# Altium footprint library C DIP.PcbLib: 40 footprints (part 1 of 3)
Each footprint in its own frame and in the unit in brackets; x right, y up, seen from the top. Pads: shape width x height; smd on the part's side, far side on the other; paste and mask are expansions set on the pad; w line width, h text height; cw(c..) or ccw(c..) is an arc to the next point about the centre after c.
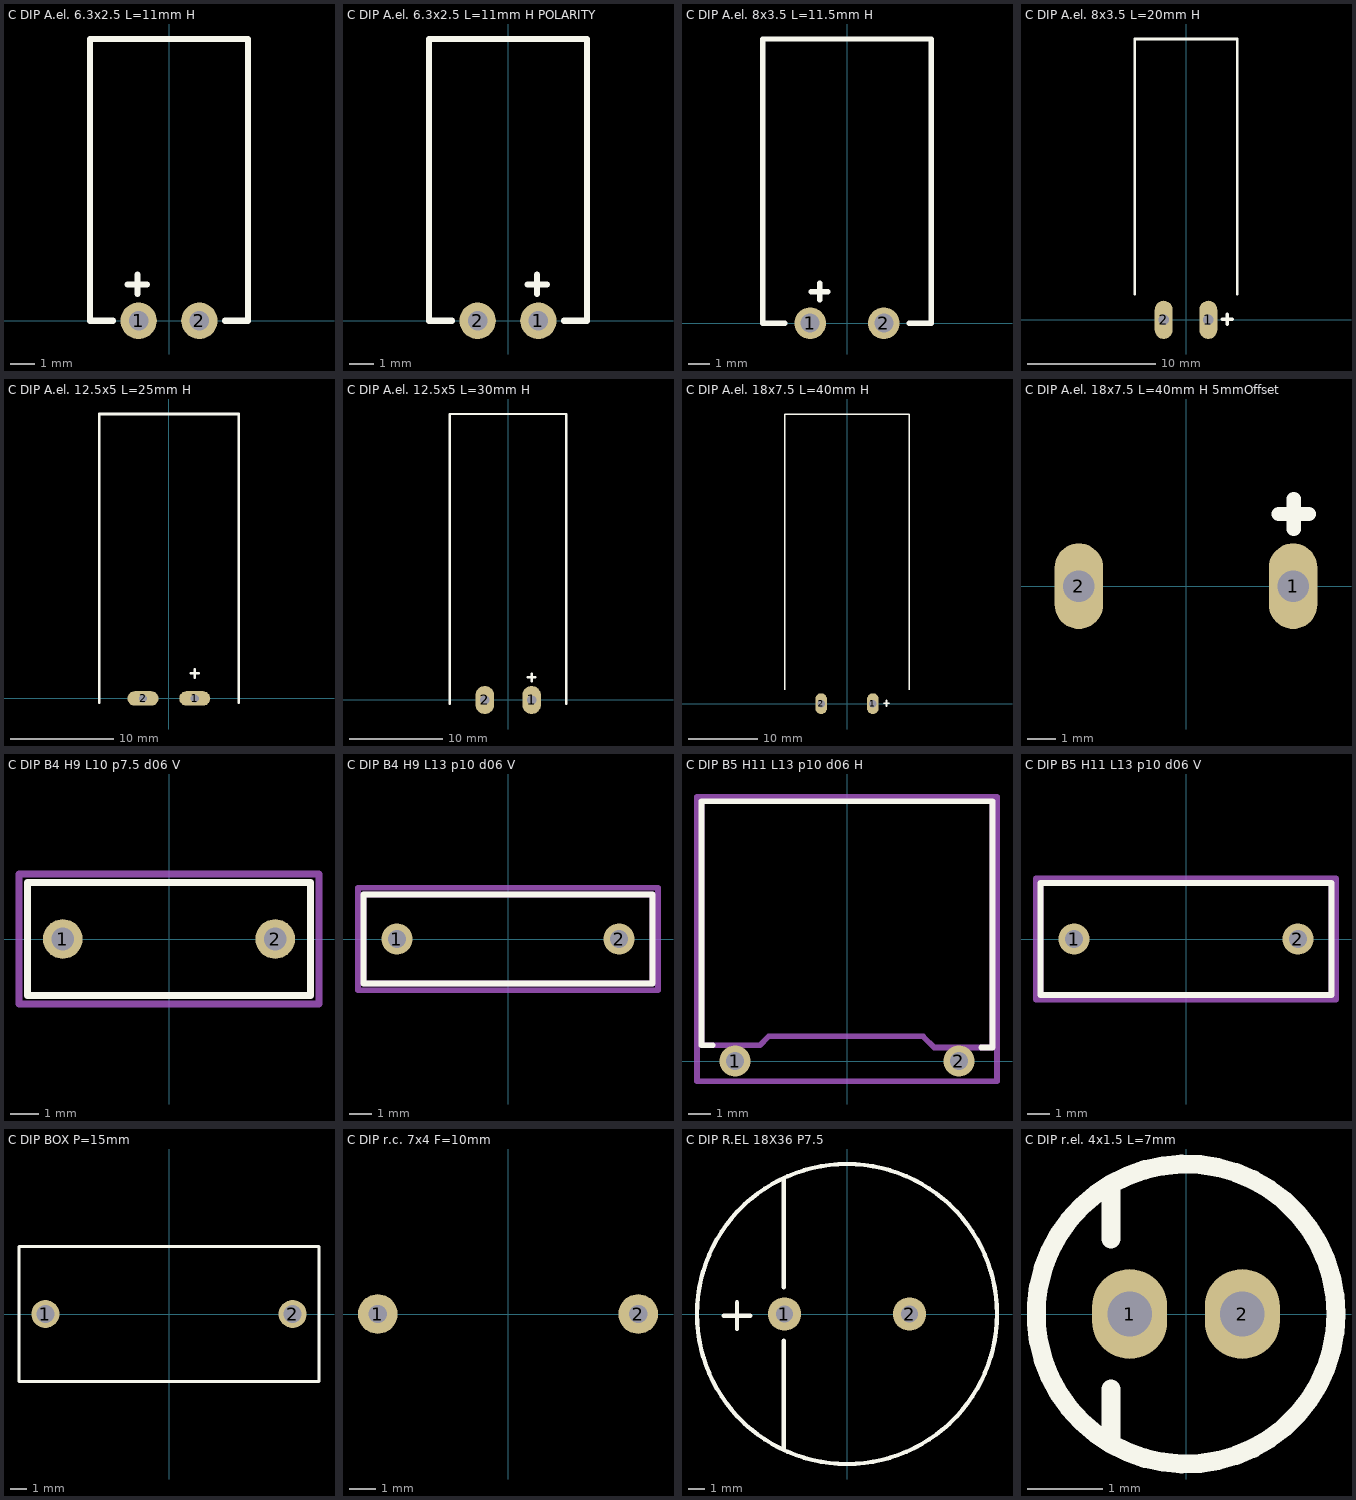
[diagram p0: the footprints below, top view; thin cyan lines are the x and y axes]

## C DIP A.el. 6.3x2.5 L=11mm H [mm] "C DIP A.el. 6.3x2.5 L=11mm Horisomtal"
height 11
pads (2):
  round 1.5 hole 0.8: 1(-1.25,0) 2(1.25,0)
Top Overlay:
  lines w0.25: -3.25,0 -3.25,11.6 ; 3.25,0 3.25,11.6
  lines w0.254: -3.25,0 -2.3,0 ; -3.25,11.6 3.25,11.6 ; -1.7,1.5 -0.9,1.5 ; -1.3,1.1 -1.3,1.9 ; 2.3,0 3.25,0
3D body: height 6.3, standoff -1, extent -3.147,-0.3 3.15,11.6

## C DIP A.el. 6.3x2.5 L=11mm H POLARITY [mm] "C DIP A.el. 6.3x2.5 L=11mm H POLARITY"
height 11
pads (2):
  round 1.5 hole 0.8: 1(1.25,0) 2(-1.25,0)
Top Overlay:
  lines w0.25: -3.25,0 -3.25,11.6 ; 3.25,0 3.25,11.6
  lines w0.254: -3.25,0 -2.3,0 ; -3.25,11.6 3.25,11.6 ; 0.8,1.5 1.6,1.5 ; 1.2,1.1 1.2,1.9 ; 2.3,0 3.25,0
3D body: height 6.3, standoff -1, extent -3.151,-0.3 3.146,11.6

## C DIP A.el. 8x3.5 L=11.5mm H [mm] "C DIP A.el. 8x3.5 L=11.5mm Horisontal"
height 8
pads (2):
  round 1.5 hole 0.9: 1(-1.75,0) 2(1.75,0)
Top Overlay:
  lines w0.25: -4,0 -4,13.5 ; 4,0 4,13.5
  lines w0.254: -4,0 -2.95,0 ; -4,13.5 4,13.5 ; -1.7,1.5 -0.9,1.5 ; -1.3,1.1 -1.3,1.9 ; 2.95,0 4,0
3D body: height 8.03, standoff -2, extent -4.025,-0.345 4.026,13.476

## C DIP A.el. 8x3.5 L=20mm H [mm] "C DIP A.el. 8x3.5 L=20mm Horisontal"
height 8
pads (2):
  oval 1.4x3 hole 0.8: 1(1.75,0) 2(-1.75,0)
Top Overlay:
  lines w0.2: -4,2 -4,22 4,22 4,2
  lines w0.254: 2.825,0.05 3.625,0.05 ; 3.225,-0.35 3.225,0.45
3D body: height 8, standoff 0, extent -4,2 4,22
3D body: height 4, standoff -3, extent -2.048,-0.299 -1.45,0.299
3D body: height 4, standoff -3, extent 1.452,-0.299 2.05,0.299
3D body: height 4.3, standoff 3.7, extent -2.049,0 -1.451,2
3D body: height 4.3, standoff 3.7, extent 1.45,0 2.048,2
3D body: height 4.3, standoff 3.7, extent -2.049,-0.298 -1.449,0.298
3D body: height 4.3, standoff 3.7, extent 1.45,-0.298 2.05,0.298

## C DIP A.el. 12.5x5 L=25mm H [mm] "C DIP A.el. 12.5x5 L=25mm Horisomtal"
height 13
pads (2):
  oval 3x1.4 hole 0.8: 1(2.5,0) 2(-2.5,0)
Top Overlay:
  lines w0.254: -6.725,-0.4 -6.725,27.5 6.75,27.5 6.75,-0.4 ; 2.1,2.45 2.9,2.45 ; 2.5,2 2.5,2.8
3D body: height 13.5, standoff 0, extent -6.75,1 6.75,27.5

## C DIP A.el. 12.5x5 L=30mm H [mm] "C DIP A.el. 12.5x5 L=30mm Horisomtal"
height 30
pads (2):
  oval 2x3 hole 1: 1(2.5,0) 2(-2.5,0)
Top Overlay:
  lines w0.254: -6.25,-0.4 -6.25,30.6 6.2,30.6 6.2,-0.4 ; 2.1,2.45 2.9,2.45 ; 2.5,2 2.5,2.8
3D body: height 12.5, standoff -1, extent -6.25,-0.4 6.213,30.6

## C DIP A.el. 18x7.5 L=40mm H [mm] "C DIP A.el. 18x7.5 L=40mm Horisontal"
height 18
pads (2):
  oval 1.7x3 hole 1.1: 1(3.75,0) 2(-3.751,0)
Top Overlay:
  lines w0.2: -9,2 -9,42 9,42 9,2
  lines w0.254: 5.325,0.05 6.125,0.05 ; 5.725,-0.35 5.725,0.45
3D body: height 4, standoff -3, extent -4.049,-0.299 -3.451,0.3
3D body: height 4.3, standoff 3.7, extent -4.05,0 -3.452,2
3D body: height 4.3, standoff 3.7, extent -4.05,-0.298 -3.45,0.298
3D body: height 4, standoff -3, extent 3.452,-0.299 4.05,0.299
3D body: height 4.3, standoff 3.7, extent 3.45,0 4.048,2
3D body: height 4.3, standoff 3.7, extent 3.45,-0.298 4.05,0.298
3D body: height 17.99, standoff 0.01, extent -9,2 9,42

## C DIP A.el. 18x7.5 L=40mm H 5mmOffset [mm] "C DIP A.el. 18x7.5 L=40mm Horizontal, 5mm lifted from PCB"
height 23
pads (2):
  oval 1.7x3 hole 1.1: 1(3.75,0) 2(-3.751,0)
Top Overlay:
  lines w0.5: 3.25,2.525 4.3,2.525 ; 3.775,2 3.775,3.05
3D body: height 22.99, standoff 5.01, extent -9,2 9,42
3D body: height 14.4, standoff 13.6, extent 3.351,-0.397 4.15,0.397
3D body: height 14.4, standoff 13.6, extent 3.35,0 4.147,2
3D body: height 4, standoff -3, extent 3.353,-0.399 4.15,0.399
3D body: height 14.4, standoff 13.6, extent -4.149,-0.397 -3.35,0.397
3D body: height 14.4, standoff 13.6, extent -4.15,0 -3.353,2
3D body: height 14, standoff -3, extent -4.148,-0.399 -3.351,0.399

## C DIP B4 H9 L10 p7.5 d06 V [mm] "C DIP B4 H9 L10 p7.5 d06 V"
height 9
pads (2):
  round 1.4 hole 0.8: 1(-3.75,0) 2(3.75,0)
Top Overlay:
  lines w0.254: -5,-2 5,-2 5,2 -5,2 -5,-2
Mechanical 13:
  lines w0.254: -5,-2 5,-2 5,2 -5,2 -5,-2
Mechanical 15:
  lines w0.254: -5.3,-2.3 5.3,-2.3 5.3,2.3 -5.3,2.3 -5.3,-2.3
3D body: height 9, standoff -1, extent -5,-2 5,2

## C DIP B4 H9 L13 p10 d06 V [mm] "C DIP B4 H9 L13 p10 d06 V"
height 9
pads (2):
  round 1.4 hole 0.8: 1(-5,0) 2(5,0)
Top Overlay:
  lines w0.254: -6.5,-2 -6.5,2 6.5,2 6.5,-2 -6.5,-2
Mechanical 13:
  lines w0.254: -6.5,-2 -6.5,2 6.5,2 6.5,-2 -6.5,-2
Mechanical 15:
  lines w0.254: -6.75,-2.3 -6.75,2.3 6.75,2.3 6.75,-2.3 -6.75,-2.3
3D body: height 9, standoff -1, extent -6.5,-2 6.5,2

## C DIP B5 H11 L13 p10 d06 H [mm] "C DIP B5 H11 L13 p10 d06 H"
height 5
pads (2):
  round 1.4 hole 0.8: 1(-5,0) 2(5,0)
Top Overlay:
  lines w0.254: -6,0.7 -6.5,0.7 -6.5,11.6 6.5,11.6 6.5,0.6 6,0.6
Mechanical 13:
  lines w0.254: -6.5,0.7 -6.5,11.6 6.5,11.6 6.5,0.6 3.9,0.6 3.4,1.1 0.7,1.1 -0.9,1.1 -3.5,1.1 -3.9,0.7 -6.5,0.7
Mechanical 15:
  lines w0.254: -6.7,-0.9 5,-0.9 6.7,-0.9 6.7,11.8 -6.7,11.8 -6.7,-0.9
3D body: height 5.01, standoff -0.49, extent -6.5,-0.3 6.5,11.6

## C DIP B5 H11 L13 p10 d06 V [mm] "C DIP B5 H11 L13 p10 d06 V"
height 11
pads (2):
  round 1.4 hole 0.8: 1(-5,0) 2(5,0)
Top Overlay:
  lines w0.254: -6.5,-2.5 -6.5,2.5 6.5,2.5 6.5,-2.5 -6.5,-2.5
Mechanical 13:
  lines w0.254: -6.5,-2.5 -6.5,2.5 6.5,2.5 6.5,-2.5 -6.5,-2.5
Mechanical 15:
  lines w0.254: -6.7,-2.7 -6.7,2.7 6.7,2.7 6.7,-2.7 -6.7,-2.7
3D body: height 11, standoff -1, extent -6.5,-2.5 6.5,2.5

## C DIP BOX P=15mm [mm] "15mm pitch, L=18mm, H=14mm, W=8mm"
height 14
pads (2):
  round 1.7 hole 1.1: 1(-7.5,0) 2(7.5,0)
Top Overlay:
  lines w0.2: -9.1,-4.1 9.1,-4.1 9.1,4.1 -9.1,4.1 -9.1,-4.1
3D body: height 14, standoff 0, extent -9,-4 9,4

## C DIP r.c. 7x4 F=10mm [mm] "C DIP r.c. 7x4 F=10mm"
pads (2):
  round 1.524 hole 0.7: 1(-5,0) 2(5,0)

## C DIP R.EL 18X36 P7.5 [mm] "C DIP R.EL 18X36 P7.5"
height 36
pads (2):
  round 2 hole 1: 1(-3.75,0) 2(3.75,0)
Top Overlay:
  circle w0.254: c0,0 r9
  lines w0.254: -7.4,-0.1 -5.8,-0.1 ; -6.6,-0.9 -6.6,0.7 ; -3.8,-8.1 -3.8,-1.6 ; -3.8,1.6 -3.8,8.1
3D body: height 36, standoff -1, extent -8.975,-9 9,9

## C DIP r.el. 4x1.5 L=7mm [mm] "C DIP r.el. 4x1.5 L=7mm"
height 7
pads (2):
  oval 1x1.2 hole 0.6: 1(-0.75,0) 2(0.75,0)
Top Overlay:
  circle w0.254: c0,0 r2
  lines w0.254: -1,-1.7 -1,-1 ; -1,1 -1,1.7
3D body: height 7, standoff 0, extent -1.984,-2 2,1.992